# EAGLE library part 613022216921 (library Board-to-Board (rev18a))
WR-PHD 2.54mm Dual S. Header Bottom Entry Large, 22 Pins=>Code : Con_BTB_SHD_2.54_2_613022216921 <http://katalog.we-online.de/media/images/eican/Con_BTB_SHD_2.54_2_6130xx216921_pf2.jpg> Details see: http://katalog.we-online.de/en/em/613_0xx_216_921 Created 2014-05-30, Karrer Zheng 2014 (C) Würth Elektronik
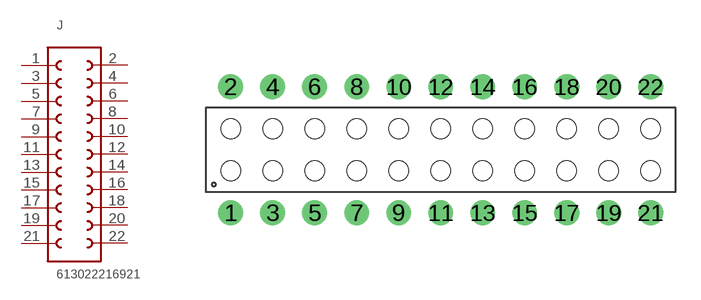
[diagram p171: symbol with the pads of 613022216921; footprint 613022216921]

Designator prefix J

## 613022216921  [613022216921]
1  1  pas
2  22  pas
3  2  pas
4  21  pas
5  3  pas
6  20  pas
7  4  pas
8  19  pas
9  5  pas
10  18  pas
11  6  pas
12  17  pas
13  7  pas
14  16  pas
15  8  pas
16  15  pas
17  9  pas
18  14  pas
19  10  pas
20  13  pas
21  11  pas
22  12  pas

## Footprint 613022216921 (pad centres in mm)
WR-PHD 2.54mm Dual S. Header Bottom Entry Large, 22 Pins
drill 1: 1 -12.7,-3.81; 2 -12.7,3.81; 3 -10.16,-3.81; 4 -10.16,3.81; 5 -7.62,-3.81; 6 -7.62,3.81; 7 -5.08,-3.81; 8 -5.08,3.81; 9 -2.54,-3.81; 10 -2.54,3.81; 11 0,-3.81; 12 0,3.81; 13 2.54,-3.81; 14 2.54,3.81; 15 5.08,-3.81; 16 5.08,3.81; 17 7.62,-3.81; 18 7.62,3.81; 19 10.16,-3.81; 20 10.16,3.81; 21 12.7,-3.81; 22 12.7,3.81
hole 1.2 at -12.7,1.27
hole 1.2 at -10.16,1.27
hole 1.2 at -10.16,-1.27
hole 1.2 at -12.7,-1.27
hole 1.2 at -7.62,1.27
hole 1.2 at -7.62,-1.27
hole 1.2 at -5.08,-1.27
hole 1.2 at -5.08,1.27
hole 1.2 at -2.54,1.27
hole 1.2 at -2.54,-1.27
hole 1.2 at 0,-1.27
hole 1.2 at 0,1.27
hole 1.2 at 2.54,1.27
hole 1.2 at 5.08,1.27
hole 1.2 at 2.54,-1.27
hole 1.2 at 5.08,-1.27
hole 1.2 at 7.62,1.27
hole 1.2 at 7.62,-1.27
hole 1.2 at 10.16,1.27
hole 1.2 at 10.16,-1.27
hole 1.2 at 12.7,1.27
hole 1.2 at 12.7,-1.27